# Altium schematic symbol library WD1502F-6_TR.SchLib: 1 symbol
Pins are listed as number, name and electrical type; pins without a type are passive.

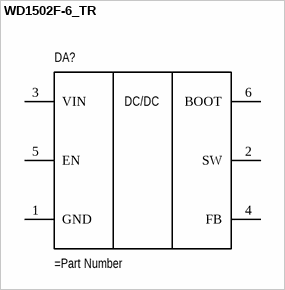
[diagram p0: symbol WD1502F-6_TR]

## WD1502F-6_TR
designator DA?
pins: 1 GND, 2 SW, 3 VIN, 4 FB, 5 EN, 6 BOOT
text: DC/DC